# Altium schematic symbol library ADS1220.SchLib: 1 symbol
Pins are listed as number, name and electrical type; pins without a type are passive.

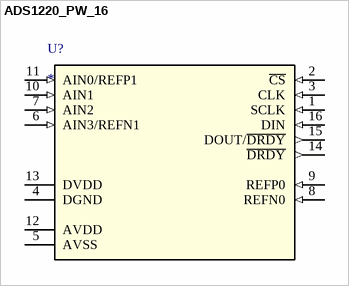
[diagram p0: symbol ADS1220_PW_16]

## ADS1220_PW_16
designator U?
4-Channel, 2-kSPS, Low-Power, 24-Bit ADC with Integrated PGA and Reference; Manufacturer_Part_Number: ads1220_pw_16; Vendor: Texas Instruments; RefDes: RefDes; Type: DEV; Value: Value
footprint PW16
pins: 1 SCLK (in), 2 ~{CS} (in), 3 CLK (in), 4 DGND (power), 5 AVSS (power), 6 AIN3/REFN1 (in), 7 AIN2 (in), 8 REFN0 (in), 9 REFP0 (in), 10 AIN1 (in), 11 AIN0/REFP1 (in), 12 AVDD (power), 13 DVDD (power), 14 ~{DRDY} (out), 15 DOUT/~{DRDY} (out), 16 DIN (in)